# Altium footprint library PA_RFMD_RFPA3800_8-SOIC.PcbLib: 1 footprints
Each footprint in its own frame and in the unit in brackets; x right, y up, seen from the top. Pads: shape width x height; smd on the part's side, far side on the other; paste and mask are expansions set on the pad; w line width, h text height; cw(c..) or ccw(c..) is an arc to the next point about the centre after c.
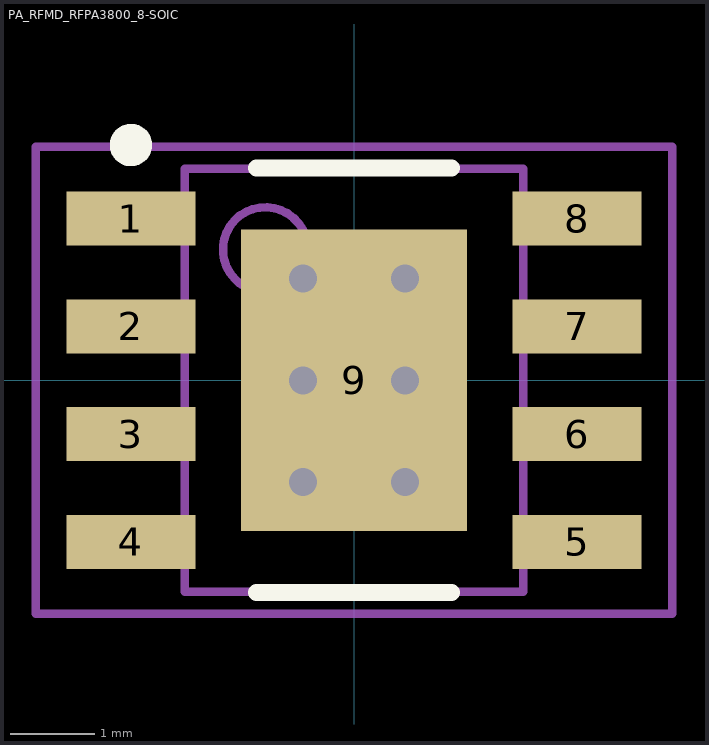
[diagram p0: the footprint, top view; thin cyan lines are the x and y axes]

## PA_RFMD_RFPA3800_8-SOIC [mil] "SOIC, 8-Leads, Body 5.0x4.0mm (max), Pitch 1.27mm, IPC Medium Density"
height 67.99
pads (9):
  rect 60x25 smd: 1(-103.5,75) 2(-103.5,25) 3(-103.5,-25) 4(-103.5,-75) 5(103.5,-75) 6(103.5,-25) 7(103.5,25) 8(103.5,75)
  rect 105x140 smd: 9(0,0)
via 23.62,-47.24 diameter 25.98 hole 12.99
via -23.62,-47.24 diameter 25.98 hole 12.99
via 23.62,0 diameter 25.98 hole 12.99
via -23.62,0 diameter 25.98 hole 12.99
via 23.62,47.24 diameter 25.98 hole 12.99
via -23.62,47.24 diameter 25.98 hole 12.99
Top Overlay:
  circle w9.84: c-103.5,109.15 r4.92
  lines w7.87: -45.28,-98.43 45.28,-98.43 ; -45.28,98.43 45.28,98.43
Mechanical 13:
  circle w3.94: c-41.14,60.63 r19.68
  lines w3.94: -78.54,-98.03 78.54,-98.03 78.54,98.03 -78.54,98.03 -78.54,-98.03
Mechanical 15:
  lines w3.94: -19.68,0 19.69,0 ; 0,-19.68 0,19.68 ; -147.64,-108.27 147.64,-108.27 147.64,108.27 -147.64,108.27 -147.64,-108.27
3D body: height 67.99, standoff 0.98, extent -78.54,-98.03 78.54,98.03